# Altium schematic symbol library 74LVC1G17SE-7.Schlib: 1 symbol
Pins are listed as number, name and electrical type; pins without a type are passive.

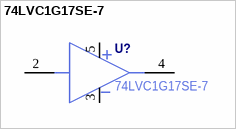
[diagram p0: symbol 74LVC1G17SE-7]

## 74LVC1G17SE-7
designator U?
Buffers & Line Drivers Single Buffer/Driver; Manufacturer Part Number: 74LVC1G17SE-7
pins: 2 A, 3 GND, 4 Y, 5 VCC